# EAGLE library part 0878331420 (library CONNECTORs)
Connector Header Through Hole, Right Angle 14 position 0.079" (2.00mm)
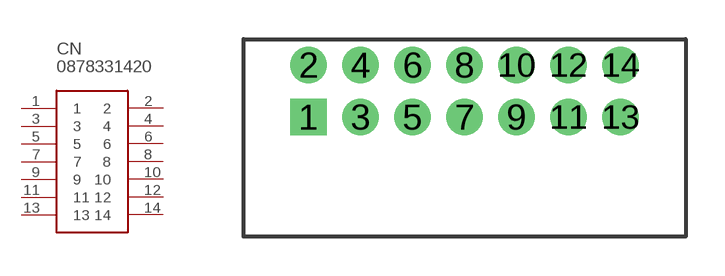
[diagram p78: symbol with the pads of 0878331420; footprint 0878331420]

Designator prefix CN

## 0878331420 (DIGIKEY: WM18863-ND; HEIGHT: 6.3; PRICE_PER: 1.62; VALUE: 14 PIN 2mm)  [0878331420]
1  1
2  2
3  3
4  4
5  5
6  6
7  7
8  8
9  9
10  10
11  11
12  12
13  13
14  14

## Footprint 0878331420 (pad centres in mm)
drill 0.9 square: 1 -6,-1
drill 0.9: 2 -6,1; 3 -4,-1; 4 -4,1; 5 -2,-1; 6 -2,1; 7 0,-1; 8 0,1; 9 2,-1; 10 2,1; 11 4,-1; 12 4,1; 13 6,-1; 14 6,1